# Altium footprint library LM61460AASQRJRRQ1.PcbLib: 1 footprints
Each footprint in its own frame and in the unit in brackets; x right, y up, seen from the top. Pads: shape width x height; smd on the part's side, far side on the other; paste and mask are expansions set on the pad; w line width, h text height; cw(c..) or ccw(c..) is an arc to the next point about the centre after c.
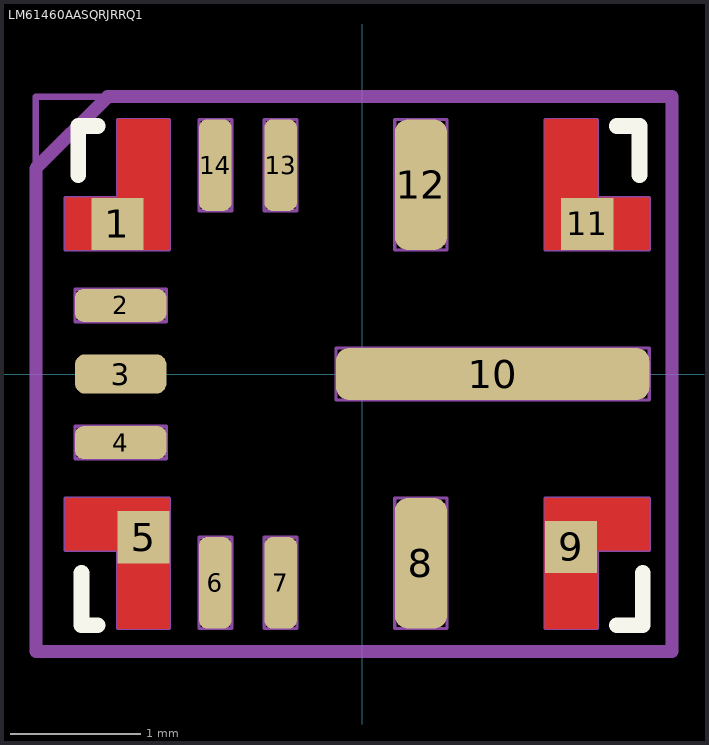
[diagram p0: the footprint, top view; thin cyan lines are the x and y axes]

## LM61460AASQRJRRQ1 [mm]
pads (14):
  rect 0.4x0.4 smd: 1(-1.875,1.15) 5(-1.675,-1.25) 9(1.6,-1.325) 11(1.725,1.15)
  rrect50% 0.7x0.25 smd: 2(-1.85,0.525) 4(-1.85,-0.525)
  rrect50% 0.7x0.3 smd: 3(-1.85,0)
  rrect50% 0.25x0.7 smd: 6(-1.125,-1.6) 7(-0.625,-1.6) 13(-0.625,1.6) 14(-1.125,1.6)
  rrect50% 0.4x1 smd: 8(0.45,-1.45) 12(0.45,1.45)
  rrect50% 2.4x0.4 smd: 10(1,0)
Top Layer:
  region: -1.875,-1.95 -1.475,-1.95 -1.475,-0.95 -2.275,-0.95 -2.275,-1.35 -1.875,-1.35
  region: -1.475,1.95 -1.875,1.95 -1.875,1.35 -2.275,1.35 -2.275,0.95 -1.475,0.95
  region: 1.8,1.95 1.4,1.95 1.4,0.95 2.2,0.95 2.2,1.35 1.8,1.35
  region: 1.4,-1.95 1.8,-1.95 1.8,-1.35 2.2,-1.35 2.2,-0.95 1.4,-0.95
Top Overlay:
  lines w0.12: -2.175,1.525 -2.175,1.9 -2.025,1.9 ; -2.15,-1.525 -2.15,-1.925 -2.025,-1.925 ; 1.95,-1.925 2.15,-1.925 2.15,-1.525 ; 1.95,1.9 2.125,1.9 2.125,1.525
Top Paste:
  region: -1.875,-1.95 -1.475,-1.95 -1.475,-0.95 -2.275,-0.95 -2.275,-1.35 -1.875,-1.35
  region: 1.8,1.95 1.4,1.95 1.4,0.95 2.2,0.95 2.2,1.35 1.8,1.35
  region: -1.475,1.95 -1.875,1.95 -1.875,1.35 -2.275,1.35 -2.275,0.95 -1.475,0.95
  region: 1.4,-1.95 1.8,-1.95 1.8,-1.35 2.2,-1.35 2.2,-0.95 1.4,-0.95
Top Solder:
  region: -1.375,-2.05 -1.975,-2.05 -1.975,-1.45 -2.375,-1.45 -2.375,-0.85 -1.375,-0.85
  region: -1.975,2.05 -1.4,2.05 -1.4,0.85 -2.375,0.85 -2.375,1.45 -1.975,1.45
  region: 1.3,2.05 1.9,2.05 1.9,1.45 2.3,1.45 2.3,0.85 1.3,0.85
  region: 1.9,-2.05 1.3,-2.05 1.3,-0.85 2.3,-0.85 2.3,-1.45 1.9,-1.45
Mechanical 3:
  lines w0.1: -2.5,-2.125 2.375,-2.125 2.375,2.125 -1.95,2.125 -2.5,1.575 -2.5,-2.125
Mechanical 5:
  lines w0.025: -2.275,-1.35 -1.875,-1.35 -1.875,-1.95 -1.475,-1.95 -1.475,-0.95 -2.275,-0.95 -2.275,-1.35 ; -2.275,0.95 -2.275,1.35 -1.875,1.35 -1.875,1.95 -1.475,1.95 -1.475,1.8 -1.475,0.95 -2.275,0.95 ; -2.2,-0.65 -1.5,-0.65 -1.5,-0.4 -2.2,-0.4 -2.2,-0.65 ; -2.2,0.4 -1.5,0.4 -1.5,0.65 -2.2,0.65 -2.2,0.4 ; -1.25,-1.95 -1,-1.95 -1,-1.25 -1.25,-1.25 -1.25,-1.95 ; -1.25,1.25 -1,1.25 -1,1.95 -1.25,1.95 -1.25,1.25 ; -0.75,-1.95 -0.75,-1.25 -0.5,-1.25 -0.5,-1.95 -0.75,-1.95 ; -0.75,1.25 -0.75,1.95 -0.5,1.95 -0.5,1.25 -0.75,1.25 ; -0.2,-0.2 2.2,-0.2 2.2,0.2 0,0.2 -0.2,0.2 -0.2,-0.2 ; 0.25,-1.95 0.65,-1.95 0.65,-0.95 0.5,-0.95 0.25,-0.95 0.25,-1.95 ; 0.25,0.95 0.65,0.95 0.65,1.95 0.425,1.95 0.25,1.95 0.25,1.75 0.25,0.95 ; 1.4,-1.95 1.4,-1.8 1.4,-0.95 2.2,-0.95 2.2,-1.35 1.8,-1.35 1.8,-1.95 1.4,-1.95 ; 1.4,0.95 1.4,1.95 1.8,1.95 1.8,1.35 2.2,1.35 2.2,0.95 1.4,0.95
Mechanical 7:
  lines w0.05: -2.5,-2.125 2.375,-2.125 2.375,2.125 2,2.125 -2,2.125 -2.5,2.125 -2.5,-2.125
Mechanical 9:
  text "'.Designator'" at -5.425,0 h1
3D body: height 1, standoff 0, extent -2.5,-2.125 2.375,2.125
3D body "RJR0014A.stp": height 1, standoff 0, extent -2,-1.75 2,1.75